# EAGLE library part LT1025CN8PBF (library fillament-winder)
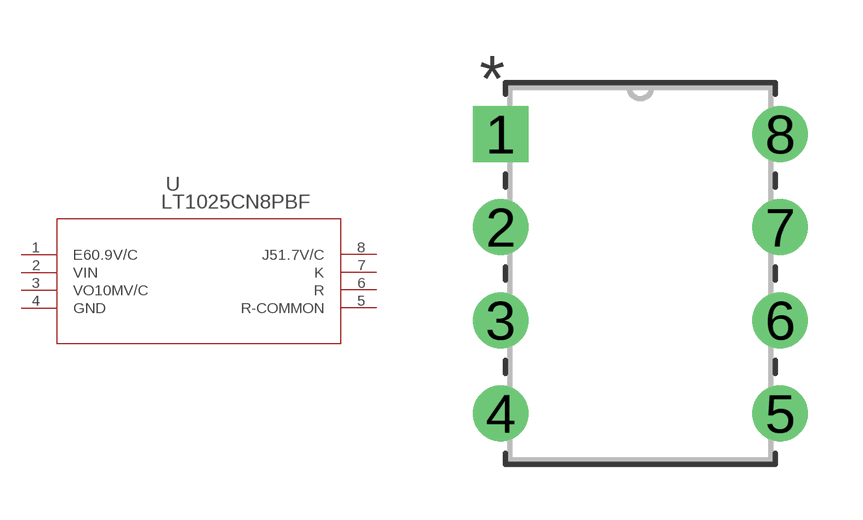
[diagram p4: symbol with the pads of N_8; footprint N_8]

Designator prefix U

## LT1025CN8PBF (MANUFACTURER_PART_NUMBER: LT1025CN8#PBF; VENDOR: Analog Devices Inc)  [N_8]
1  E60.9V/C  pas
2  VIN  pas
3  VO10MV/C  pas
4  GND  pas
5  R-COMMON  pas
6  R  pas
7  K  pas
8  J51.7V/C  pas

## Footprint N_8 (pad centres in mm)
drill 0.813 pad 1.524 square: 1 -7.62,7.62
drill 0.813 pad 1.524: 2 -7.62,5.08; 3 -7.62,2.54; 4 -7.62,0; 5 0,0; 6 0,2.54; 7 0,5.08; 8 0,7.62